# EAGLE library part HARWIN-M55-60 (library J-Harwin-M55-60X1242R-Solar-board-connector)
OreSat Solar Board Connector Harwin M55-6001242R is used on the OreSat end cap Harwin M55-6021242R is used on the OreSat 1U solar panels to connect to the end cards. note: 602xxx is 7.4 mm longer than 600xxx Datasheet <https://cdn.harwin.com/pdfs/M55-60X.pdf>
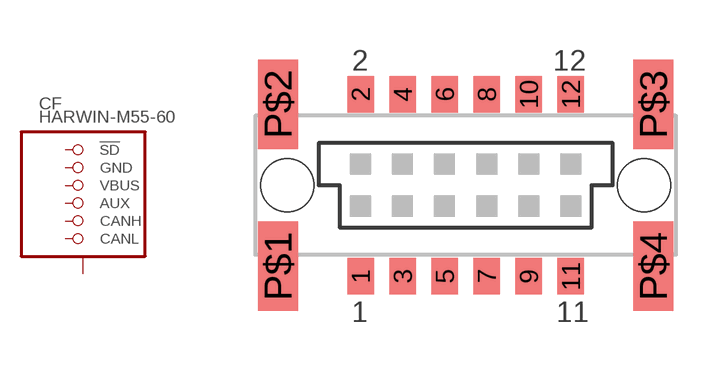
[diagram p0: symbol with the pads of HARWIN-M55-60X1242R; footprint HARWIN-M55-60X1242R]

Designator prefix CF

## HARWIN-M55-6021242R (DESCRIPTION: Surface mount female vertical connector; DIST: Digi-Key; DIST_PN: 952-3851-1-ND; GENERIC: N; MFG: Harwin Inc.; MFG_PN: M55-6021242R; P-NP: P)  [HARWIN-M55-60X1242R]
1  !SD  pas
2  !SD  pas
3  GND  pas
4  GND  pas
5  VBUS  pas
6  VBUS  pas
7  AUX  pas
8  AUX  pas
9  CANH  pas
10  CANH  pas
11  CANL  pas
12  CANL  pas
P$1  SHIELD  pas
P$2  SHIELD  pas
P$3  SHIELD  pas
P$4  SHIELD  pas

## HARWIN-M55-6001242R (DISCRIPTION: Surface mount female vertical connector; DIST: Digi-Key; DIST_PN: 952-3835-1-ND; GENERIC: N; MFG: Harwin Inc.; MFG_PN: M55-6001242R; P-NP: P)  [HARWIN-M55-60X1242R]
Pads as for HARWIN-M55-60X1242R

## Footprint HARWIN-M55-60X1242R (pad centres in mm)
smd 0.8 x 1.1: 1 -3.175,-2.75; 2 -3.175,2.75; 3 -1.905,-2.75; 4 -1.905,2.75; 5 -0.635,-2.75; 6 -0.635,2.75; 7 0.635,-2.75; 8 0.635,2.75; 9 1.905,-2.75; 10 1.905,2.75; 11 3.175,-2.75; 12 3.175,2.75
smd 1.2 x 2.7: P$1 -5.67,-2.45; P$2 -5.67,2.45; P$3 5.67,2.45; P$4 5.67,-2.45
hole 1.6 at -5.385,0
hole 1.6 at 5.385,0